# Altium footprint library DO-213AA.PcbLib: 1 footprints
Each footprint in its own frame and in the unit in brackets; x right, y up, seen from the top. Pads: shape width x height; smd on the part's side, far side on the other; paste and mask are expansions set on the pad; w line width, h text height; cw(c..) or ccw(c..) is an arc to the next point about the centre after c.
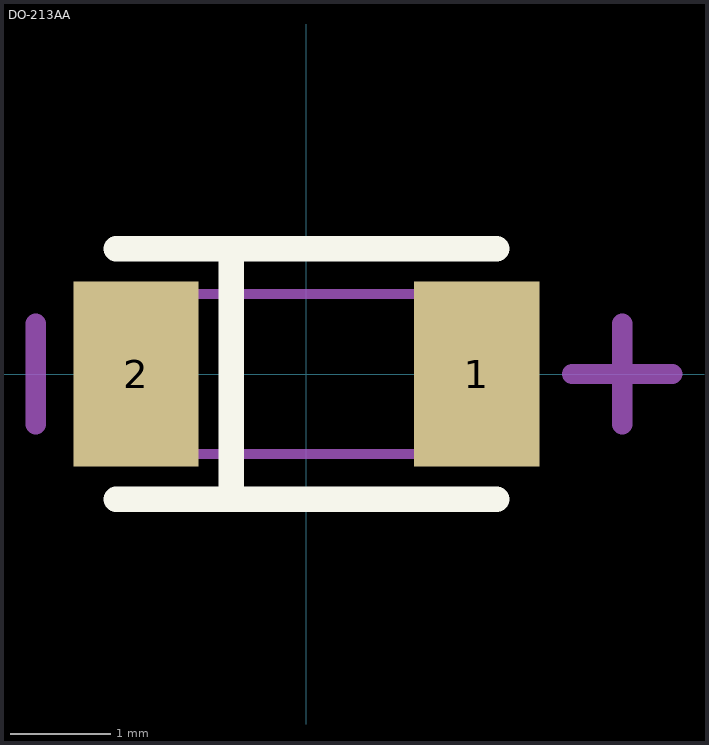
[diagram p0: the footprint, top view; thin cyan lines are the x and y axes]

## DO-213AA [mm]
pads (2):
  rect 1.25x1.85 smd: 1(1.7,0) 2(-1.7,0)
Top Overlay:
  lines w0.254: -1.9,-1.25 1.9,-1.25 ; -1.9,1.25 1.9,1.25 ; -0.75,-1.25 -0.75,1.25
Mechanical 13:
  lines w0.1: -1.8,-0.8 -1.8,0.8 1.8,0.8 1.8,-0.8 -1.8,-0.8
Mechanical 15:
  lines w0.203: -2.7,-0.5 -2.7,0.5 ; 2.65,0 3.65,0 ; 3.15,-0.5 3.15,0.5